# Altium schematic symbol library 691242710004.SchLib: 1 symbol
Pins are listed as number, name and electrical type; pins without a type are passive.

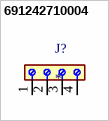
[diagram p0: symbol 691242710004]

## 691242710004
designator J?
4 Position Wire to Board Terminal Block Horizontal with Board 0.197 (5.00mm) Through Hole; MF: Wurth Electronics; MP: 691242710004; SnapEDA_Link: https://www.snapeda.com/parts/691242710004/Wurth+Elektronik/view-part/?ref=snap; Package: None; Value: *; Check_prices: https://www.snapeda.com/parts/691242710004/Wurth+Elektronik/view-part/?ref=eda
footprint 691242710004
pins: 1, 2, 3, 4